# EAGLE library part TTGO_T2_16 (library ESP32_modules)
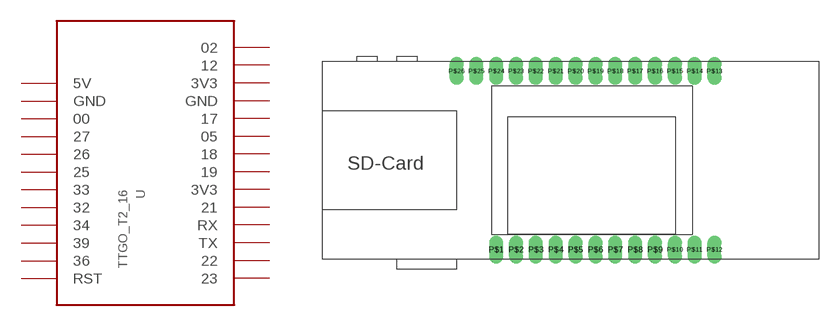
[diagram p2: symbol with the pads of TTGOT2_1.6; footprint TTGOT2_1.6]

Designator prefix -

## TTGO_T2_16  [TTGOT2_1.6]
P$1  5V  sup
P$2  GND  sup
P$3  00
P$4  27
P$5  26
P$6  25
P$7  33
P$8  32
P$9  34
P$10  39
P$11  36
P$12  RST
P$13  23
P$14  22
P$15  TX
P$16  RX
P$17  21
P$18  3V3  sup
P$19  19
P$20  18
P$21  05
P$22  17
P$23  GND  sup
P$24  3V3  sup
P$25  12
P$26  02

## Footprint TTGOT2_1.6 (pad centres in mm)
drill 0.8 pad 1.778 long: P$1 5.08,0; P$2 7.62,0; P$3 10.16,0; P$4 12.7,0; P$5 15.24,0; P$6 17.78,0; P$7 20.32,0; P$8 22.86,0; P$9 25.4,0; P$10 27.94,0; P$11 30.48,0; P$12 33.02,0; P$13 33.02,22.86; P$14 30.48,22.86; P$15 27.94,22.86; P$16 25.4,22.86; P$17 22.86,22.86; P$18 20.32,22.86; P$19 17.78,22.86; P$20 15.24,22.86; P$21 12.7,22.86; P$22 10.16,22.86; P$23 7.62,22.86; P$24 5.08,22.86; P$25 2.54,22.86; P$26 0,22.86